# EAGLE library part DF12-ELLI-* (library ELL-i-Connectors)
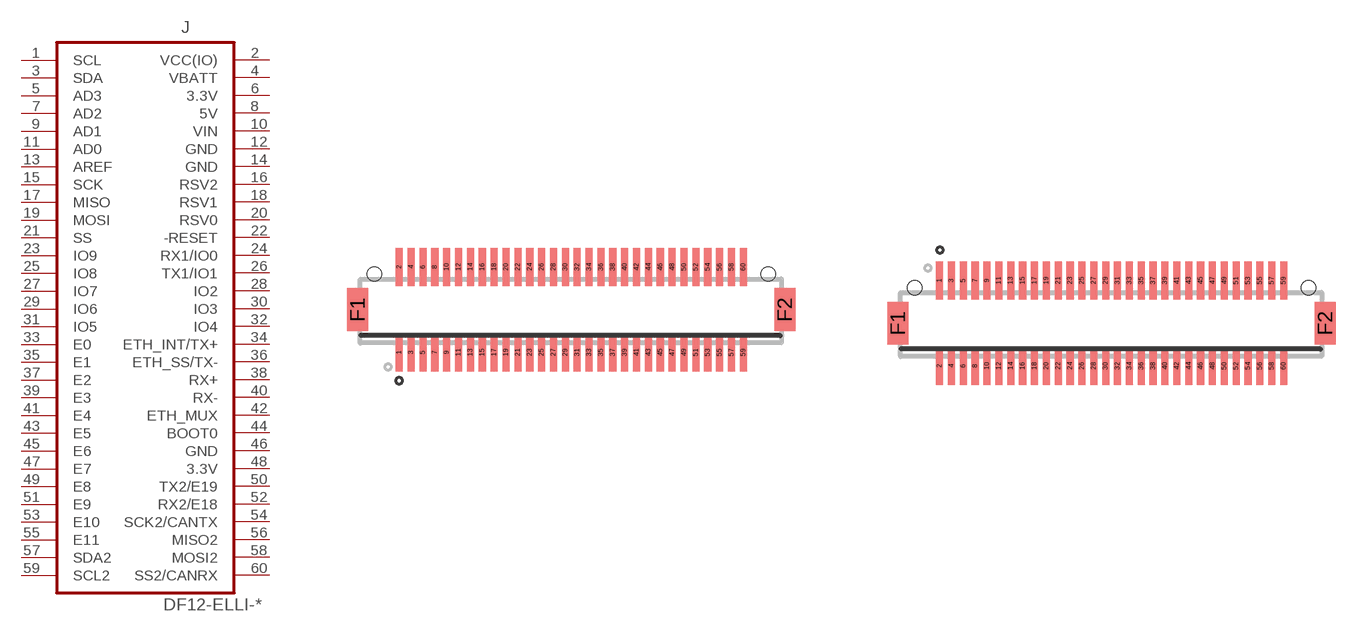
[diagram p11: symbol with the pads of DF12(4.0)-60DP-0.5V; footprints DF12(4.0)-60DP-0.5V, DF12-60DS-0.5V]

Designator prefix J

## DF12-ELLI-HEADER-TOP  [DF12(4.0)-60DP-0.5V]
1  SCL
2  VCC(IO)  pwr
3  SDA
4  VBATT  pwr
5  AD3  pas
6  3.3V  pwr
7  AD2  pas
8  5V  pwr
9  AD1  pas
10  VIN  pwr
11  AD0  pas
12  GND  pwr
13  AREF  pas
14  GND  pwr
15  SCK
16  RSV2  pas
17  MISO
18  RSV1  pas
19  MOSI
20  RSV0  pas
21  SS
22  -RESET
23  IO9
24  RX1/IO0
25  IO8
26  TX1/IO1
27  IO7
28  IO2
29  IO6
30  IO3
31  IO5
32  IO4
33  E0
34  ETH_INT/TX+
35  E1
36  ETH_SS/TX-
37  E2
38  RX+
39  E3
40  RX-
41  E4
42  ETH_MUX
43  E5
44  BOOT0
45  E6
46  GND
47  E7
48  3.3V
49  E8
50  TX2/E19
51  E9
52  RX2/E18
53  E10
54  SCK2/CANTX
55  E11
56  MISO2
57  SDA2
58  MOSI2
59  SCL2
60  SS2/CANRX

## DF12-ELLI-RECEPTABLE-BOTTOM  [DF12-60DS-0.5V]
Pads as for DF12(4.0)-60DP-0.5V

## Footprint DF12(4.0)-60DP-0.5V (pad centres in mm)
Hirose DF12 60-pin female (header) pattern with metal fitting and boss Datasheet <https://www.sparkfun.com/datasheets/Cellular%20Modules/ADH8066connector.pdf> (from SparkFun)
smd 0.3 x 1.6: 1 -7.25,-1.8; 2 -7.25,1.8; 3 -6.75,-1.8; 4 -6.75,1.8; 5 -6.25,-1.8; 6 -6.25,1.8; 7 -5.75,-1.8; 8 -5.75,1.8; 9 -5.25,-1.8; 10 -5.25,1.8; 11 -4.75,-1.8; 12 -4.75,1.8; 13 -4.25,-1.8; 14 -4.25,1.8; 15 -3.75,-1.8; 16 -3.75,1.8; 17 -3.25,-1.8; 18 -3.25,1.8; 19 -2.75,-1.8; 20 -2.75,1.8; 21 -2.25,-1.8; 22 -2.25,1.8; 23 -1.75,-1.8; 24 -1.75,1.8; 25 -1.25,-1.8; 26 -1.25,1.8; 27 -0.75,-1.8; 28 -0.75,1.8; 29 -0.25,-1.8; 30 -0.25,1.8; 31 0.25,-1.8; 32 0.25,1.8; 33 0.75,-1.8; 34 0.75,1.8; 35 1.25,-1.8; 36 1.25,1.8; 37 1.75,-1.8; 38 1.75,1.8; 39 2.25,-1.8; 40 2.25,1.8; 41 2.75,-1.8; 42 2.75,1.8; 43 3.25,-1.8; 44 3.25,1.8; 45 3.75,-1.8; 46 3.75,1.8; 47 4.25,-1.8; 48 4.25,1.8; 49 4.75,-1.8; 50 4.75,1.8; 51 5.25,-1.8; 52 5.25,1.8; 53 5.75,-1.8; 54 5.75,1.8; 55 6.25,-1.8; 56 6.25,1.8; 57 6.75,-1.8; 58 6.75,1.8; 59 7.25,-1.8; 60 7.25,1.8
smd 0.9 x 1.8: F1 -9,0; F2 9,0
hole 0.6 at -8.3,1.5
hole 0.6 at 8.3,1.5

## Footprint DF12-60DS-0.5V (pad centres in mm)
Hirose DF12 60-pin male (receptable) pattern with metal fitting and boss Datasheet <https://www.sparkfun.com/datasheets/Cellular%20Modules/ADH8066connector.pdf> (from SparkFun)
smd 0.3 x 1.6: 1 -7.25,1.8; 2 -7.25,-1.8; 3 -6.75,1.8; 4 -6.75,-1.8; 5 -6.25,1.8; 6 -6.25,-1.8; 7 -5.75,1.8; 8 -5.75,-1.8; 9 -5.25,1.8; 10 -5.25,-1.8; 11 -4.75,1.8; 12 -4.75,-1.8; 13 -4.25,1.8; 14 -4.25,-1.8; 15 -3.75,1.8; 16 -3.75,-1.8; 17 -3.25,1.8; 18 -3.25,-1.8; 19 -2.75,1.8; 20 -2.75,-1.8; 21 -2.25,1.8; 22 -2.25,-1.8; 23 -1.75,1.8; 24 -1.75,-1.8; 25 -1.25,1.8; 26 -1.25,-1.8; 27 -0.75,1.8; 28 -0.75,-1.8; 29 -0.25,1.8; 30 -0.25,-1.8; 31 0.25,1.8; 32 0.25,-1.8; 33 0.75,1.8; 34 0.75,-1.8; 35 1.25,1.8; 36 1.25,-1.8; 37 1.75,1.8; 38 1.75,-1.8; 39 2.25,1.8; 40 2.25,-1.8; 41 2.75,1.8; 42 2.75,-1.8; 43 3.25,1.8; 44 3.25,-1.8; 45 3.75,1.8; 46 3.75,-1.8; 47 4.25,1.8; 48 4.25,-1.8; 49 4.75,1.8; 50 4.75,-1.8; 51 5.25,1.8; 52 5.25,-1.8; 53 5.75,1.8; 54 5.75,-1.8; 55 6.25,1.8; 56 6.25,-1.8; 57 6.75,1.8; 58 6.75,-1.8; 59 7.25,1.8; 60 7.25,-1.8
smd 0.9 x 1.8: F1 -9,0; F2 9,0
hole 0.6 at -8.3,1.5
hole 0.6 at 8.3,1.5